# Altium schematic symbol library lab_6.SchLib: 4 symbols
Pins are listed as number, name and electrical type; pins without a type are passive.

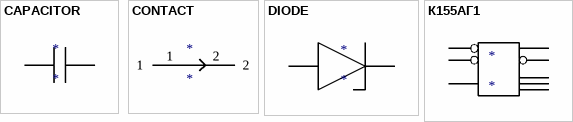
[diagram p0: symbols CAPACITOR to К155АГ1]

## CAPACITOR
designator *
footprint PCBComponent_1
pins: 1, 2

## CONTACT
designator *
footprint CONTACT
pins: 1, 2

## DIODE
designator *
footprint DIODE
pins: 1, 2

## К155АГ1
designator *
footprint К155АГ1
pins: 1, 3, 4, 5, 6, 9, 10, 11